# Altium footprint library SparkFun-Boards.PCBLIB: 38 footprints (part 3 of 3)
Each footprint in its own frame and in the unit in brackets; x right, y up, seen from the top. Pads: shape width x height; smd on the part's side, far side on the other; paste and mask are expansions set on the pad; w line width, h text height; cw(c..) or ccw(c..) is an arc to the next point about the centre after c.
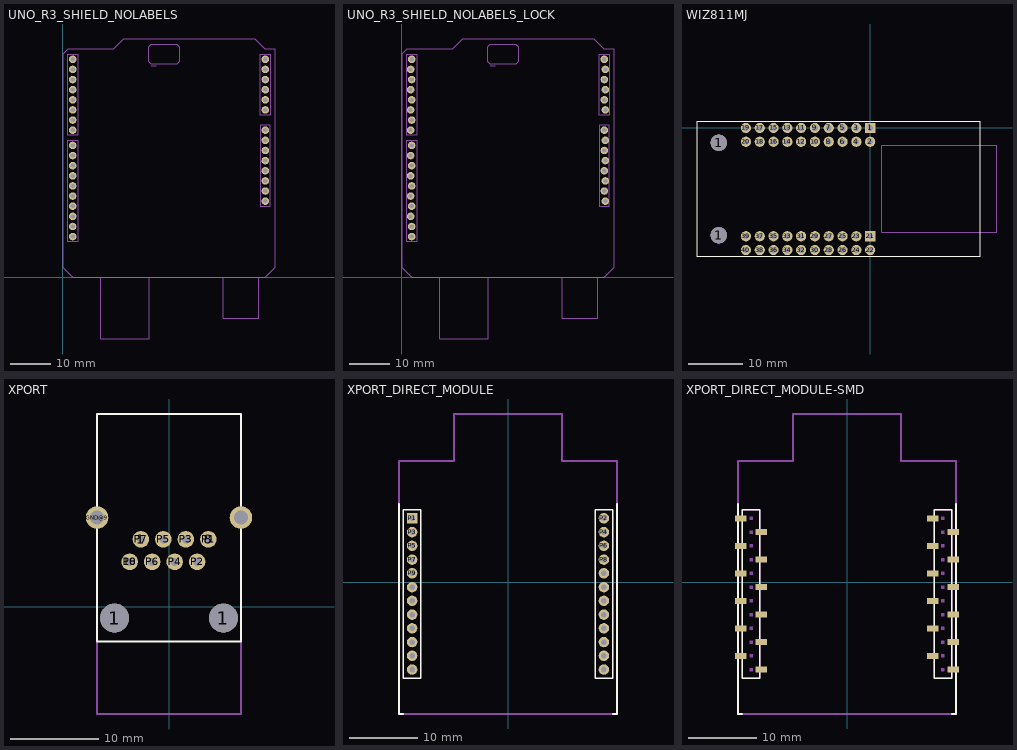
[diagram p2: the footprints below, top view; thin cyan lines are the x and y axes]

## UNO_R3_SHIELD_NOLABELS [mil]
pads (32):
  round 74 hole 40: 3.3V(2000,1050) 5V(2000,1150) A0(2000,1650) A1(2000,1750) A2(2000,1850) A3(2000,1950) A4(2000,2050) A5(2000,2150) AREF(100,600) D2(100,1950) D3(100,1850) D4(100,1750) D5(100,1650) D6(100,1550) D7(100,1450) D8(100,1300) D9(100,1200) D10(100,1100) D11(100,1000) D12(100,900) D13(100,800) GND@0(2000,1250) GND@1(2000,1350) GND@2(100,700) IOREF(2000,850) NC(2000,750) RES(2000,950) RX(100,2150) SCL(100,400) SDA(100,500) TX(100,2050) VIN(2000,1450)
Mechanical 16:
  lines w5: 50,350 150,350 150,1350 50,1350 50,350 ; 50,1400 150,1400 150,2200 50,2200 50,1400 ; 1950,700 2050,700 2050,1500 1950,1500 1950,700 ; 1950,1600 2050,1600 2050,2200 1950,2200 1950,1600
  lines w8: 875,2080 925,2080
  lines w10: 1583,-3.94 1583,-405.51 1938,-405.51 1938,-3.94 ; 375,0 100,0 0,100 0,2200 50,2250 500,2250 600,2350 1900,2350 2000,2250 2100,2250 2100,100 2000,0 855,0 ; 375,0 855,0 ; 375,0 375,-610.24 855,-610.24 855,0 ; 850,2125 875,2100 1125,2100 1150,2125 1150,2275 1125,2300 875,2300 850,2275 850,2125
  text "RST" at 1075,2065 h17
  text "ISP" at 980,2190 h31

## UNO_R3_SHIELD_NOLABELS_LOCK [mil]
pads (32):
  round 74 hole 40: 3.3V(2000,1050) 5V(2010,1150) A0(2010,1650) A1(2000,1750) A2(2010,1850) A3(2000,1950) A4(2010,2050) A5(2000,2150) AREF(90,600) D2(100,1950) D3(90,1850) D4(100,1750) D5(90,1650) D6(100,1550) D7(90,1450) D8(100,1300) D9(90,1200) D10(100,1100) D11(90,1000) D12(100,900) D13(90,800) GND@0(2000,1250) GND@1(2010,1350) GND@2(100,700) IOREF(2000,850) NC(2010,750) RES(2010,950) RX(100,2150) SCL(100,400) SDA(100,500) TX(90,2050) VIN(2000,1450)
Mechanical 16:
  lines w5: 50,350 150,350 150,1350 50,1350 50,350 ; 50,1400 150,1400 150,2200 50,2200 50,1400 ; 1950,700 2050,700 2050,1500 1950,1500 1950,700 ; 1950,1600 2050,1600 2050,2200 1950,2200 1950,1600
  lines w8: 875,2080 925,2080
  lines w10: 1583,-3.94 1583,-405.51 1938,-405.51 1938,-3.94 ; 375,0 100,0 0,100 0,2200 50,2250 500,2250 600,2350 1900,2350 2000,2250 2100,2250 2100,100 2000,0 855,0 ; 375,0 855,0 ; 375,0 375,-610.24 855,-610.24 855,0 ; 850,2125 875,2100 1125,2100 1150,2125 1150,2275 1125,2300 875,2300 850,2275 850,2125
  text "RST" at 1075,2065 h17
  text "ISP" at 980,2190 h17

## WIZ811MJ [mil]
pads (42):
  round 119 hole 119: 1(-1096.85,-776.77) 1(-1096.85,-107.48)
  rect 74x74 hole 41: 1(0,0) 21(0,-784.25)
  round 74 hole 41: 2(0,-100) 3(-100,0) 4(-100,-100) 5(-200,0) 6(-200,-100) 7(-300,0) 8(-300,-100) 9(-400,0) 10(-400,-100) 11(-500,0) 12(-500,-100) 13(-600,0) 14(-600,-100) 15(-700,0) 16(-700,-100) 17(-800,0) 18(-800,-100) 19(-900,0) 20(-900,-100) 22(0,-884.25) 23(-100,-784.25) 24(-100,-884.25) 25(-200,-784.25) 26(-200,-884.25) 27(-300,-784.25) 28(-300,-884.25) 29(-400,-784.25) 30(-400,-884.25) 31(-500,-784.25) 32(-500,-884.25) 33(-600,-784.25) 34(-600,-884.25) 35(-700,-784.25) 36(-700,-884.25) 37(-800,-784.25) 38(-800,-884.25) 39(-900,-784.25) 40(-900,-884.25)
Top Overlay:
  lines w5: -1254.33,-934.25 -1254.33,50 793,50 793,-934.25 -1254.33,-934.25
Mechanical 16:
  lines w5: 85,-755.12 919,-755.12 919,-129.13 85,-129.13 85,-755.12
  text "J1" at 45,-68.11 h77.5
  text "J2" at 45,-855.51 h77.5
  text "WIZnet" at 242,-28.74 h77.5
  text "WIZ811MJ REV1.0" at 136,-918.5 h77.5

## XPORT [mil]
pads (15):
  round 128 hole 128: 1(-242,-50) 1(242,-50)
  round 74 hole 35: 1(-125,300) 8(175,300) 10(-175,200) P1(175,300) P2(125,200) P3(75,300) P4(25,200) P5(-25,300) P6(-75,200) P7(-125,300) P8(-175,200)
  round 100 hole 63: GND@9(-320,397) GND@10(320,397)
Top Overlay:
  lines w8: -320,-155 -320,858 320,858 320,-155 -320,-155
Mechanical 16:
  lines w8: -320,-155 -320,-477 320,-477 320,-155

## XPORT_DIRECT_MODULE [mil]
pads (24):
  rect 60x60 hole 32: P1(-550,367)
  round 60 hole 32: P2(550,367) P3(-550,288) P4(550,288) P5(-550,209) P6(550,209) P7(-550,130) P8(550,130) P9(-550,52) P10(550,52) P11(-550,-27.56) P12(550,-27.56) P13(-550,-106.3) P14(550,-106.3) P15(-550,-185.04) P16(550,-185.04) P17(-550,-263.78) P18(550,-263.78) P19(-550,-342.52) P20(550,-342.52) P21(-550,-421.26) P22(550,-421.26) P23(-550,-500) P24(550,-500)
Top Overlay:
  lines w8: -599.21,-549.21 -599.21,416 -500.79,416 -500.79,-549.21 -599.21,-549.21 ; 501,-549.21 501,416 600,416 600,-549.21 501,-549.21
  lines w10: -625,450 -625,-755 -600,-755 ; 600,-755 625,-755 625,450
Mechanical 16:
  region: -540,-352.52 -540,-332.52 -560,-332.52 -560,-352.52
  region: -540,-431.26 -540,-411.26 -560,-411.26 -560,-431.26
  region: -540,-510 -540,-490 -560,-490 -560,-510
  region: -540,-273.78 -540,-253.78 -560,-253.78 -560,-273.78
  region: -540,-195.04 -540,-175.04 -560,-175.04 -560,-195.04
  region: -540,-116.3 -540,-96.3 -560,-96.3 -560,-116.3
  region: -540,-37.56 -540,-17.56 -560,-17.56 -560,-37.56
  region: -540,42 -540,62 -560,62 -560,42
  region: -540,120 -540,140 -560,140 -560,120
  region: -540,199 -540,219 -560,219 -560,199
  region: -540,278 -540,298 -560,298 -560,278
  region: -540,357 -540,377 -560,377 -560,357
  region: 560,-352.52 560,-332.52 540,-332.52 540,-352.52
  region: 560,-431.26 560,-411.26 540,-411.26 540,-431.26
  region: 560,-510 560,-490 540,-490 540,-510
  region: 560,-273.78 560,-253.78 540,-253.78 540,-273.78
  region: 560,-195.04 560,-175.04 540,-175.04 540,-195.04
  region: 560,-116.3 560,-96.3 540,-96.3 540,-116.3
  region: 560,-37.56 560,-17.56 540,-17.56 540,-37.56
  region: 560,42 560,62 540,62 540,42
  region: 560,120 560,140 540,140 540,120
  region: 560,199 560,219 540,219 540,199
  region: 560,278 560,298 540,298 540,278
  region: 560,357 560,377 540,377 540,357
  lines w10: -625,-755 625,-755 625,695 310,695 310,965 -310,965 -310,695 -625,695 -625,-755

## XPORT_DIRECT_MODULE-SMD [mil]
pads (24):
  rect 67x34 smd: P1(-609.13,366) P2(491,366) P3(-491.02,288) P4(609,288) P5(-609.13,209) P6(491,209) P7(-491.02,130) P8(609,130) P9(-609.13,51) P10(491,51) P11(-491.02,-27.82) P12(609,-27.82) P13(-609.13,-106.56) P14(491,-106.56) P15(-491.02,-185.3) P16(609,-185.3) P17(-609.13,-264.04) P18(491,-264.04) P19(-491.02,-342.78) P20(609,-342.78) P21(-609.13,-421.52) P22(491,-421.52) P23(-491.02,-500.26) P24(609,-500.26)
Top Overlay:
  lines w8: -599.28,-527.82 -599.28,-549.47 -500.86,-549.47 -500.86,-527.82 ; -599.28,390 -599.28,416 -500.86,416 -500.86,390 ; 501,-527.82 501,-549.47 600,-549.47 600,-527.82 ; 501,390 501,416 ; 600,390 600,416 ; 501,416 501,-549.21 600,-549.21 600,416 ; 501,416 600,416 ; 501,416 600,416 ; -599.21,-549.21 -599.21,416 -500.79,416 -500.79,-549.21 -599.21,-549.21
  lines w10: -625,450 -625,-755 -600,-755 ; 600,-755 625,-755 625,450
Mechanical 16:
  region: -540,-352.52 -540,-332.52 -560,-332.52 -560,-352.52
  region: -540,-431.26 -540,-411.26 -560,-411.26 -560,-431.26
  region: -540,-510 -540,-490 -560,-490 -560,-510
  region: -540,-273.78 -540,-253.78 -560,-253.78 -560,-273.78
  region: -540,-195.04 -540,-175.04 -560,-175.04 -560,-195.04
  region: -540,-116.3 -540,-96.3 -560,-96.3 -560,-116.3
  region: -540,-37.56 -540,-17.56 -560,-17.56 -560,-37.56
  region: -540,42 -540,62 -560,62 -560,42
  region: -540,120 -540,140 -560,140 -560,120
  region: -540,199 -540,219 -560,219 -560,199
  region: -540,278 -540,298 -560,298 -560,278
  region: -540,357 -540,377 -560,377 -560,357
  region: 560,-352.52 560,-332.52 540,-332.52 540,-352.52
  region: 560,-431.26 560,-411.26 540,-411.26 540,-431.26
  region: 560,-510 560,-490 540,-490 540,-510
  region: 560,-273.78 560,-253.78 540,-253.78 540,-273.78
  region: 560,-195.04 560,-175.04 540,-175.04 540,-195.04
  region: 560,-116.3 560,-96.3 540,-96.3 540,-116.3
  region: 560,-37.56 560,-17.56 540,-17.56 540,-37.56
  region: 560,42 560,62 540,62 540,42
  region: 560,120 560,140 540,140 540,120
  region: 560,199 560,219 540,219 540,199
  region: 560,278 560,298 540,298 540,278
  region: 560,357 560,377 540,377 540,357
  lines w8: -599.28,-391.97 -599.28,416 -500.86,416 -500.86,-391.97 ; -599.28,258 -599.28,-549.47 -500.86,-549.47 -500.86,258 ; 501,-391.97 501,416 600,416 600,-391.97 ; 501,258 501,-549.47 600,-549.47 600,258
  lines w10: -625,-755 625,-755 625,695 310,695 310,965 -310,965 -310,695 -625,695 -625,-755